# EAGLE library part COMBO-11 (library bao)
COMBO XLR-JACK - 11pins (mathijs) NCJ10FI-H Neutrik Audio Connector XLR SERIES Stereo 1/4" jack with switch Source: www.neutrik.com/
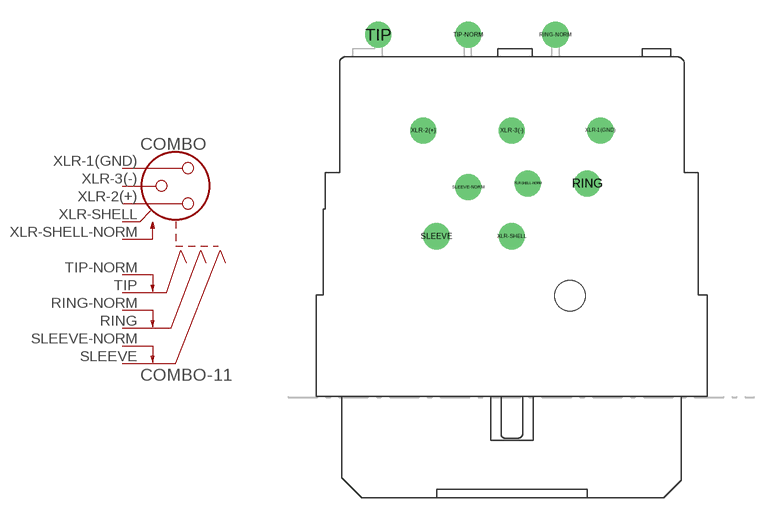
[diagram p20: symbol with the pads of COMBO-11; footprint COMBO-11]

Designator prefix COMBO

## COMBO-11H  [COMBO-11]
RING  RING  pas
RING-NORM  RING-NORM  pas
SLEEVE  SLEEVE  pas
SLEEVE-NORM  SLEEVE-NORM  pas
TIP  TIP  pas
TIP-NORM  TIP-NORM  pas
XLR-1(GND)  XLR-1(GND)  pas
XLR-2(+)  XLR-2(+)  pas
XLR-3(-)  XLR-3(-)  pas
XLR-SHELL  XLR-SHELL  pas
XLR-SHELL-NORM  XLR-SHELL-NORM  pas

## Footprint COMBO-11 (pad centres in mm)
COMBO XLR-JACK - 11pins (mathijs) NCJ10FI-H Neutrik Audio Connector XLR SERIES Stereo 1/4" jack with switch Source: www.neutrik.com/ Neutrik Audio Connector combo, 3-pole, female, XLR/switching ground stereo 1/4" jack Source: www.neutrik.com/...210_263081.pdf
drill 1.2: RING 5.2,14.75; RING-NORM 3,25; SLEEVE -5.2,11.1; SLEEVE-NORM -3,14.5; TIP -9.2,25; TIP-NORM -3,25; XLR-1(GND) 6.1,18.4; XLR-2(+) -6.1,18.4; XLR-3(-) 0,18.4; XLR-SHELL 0,11.1; XLR-SHELL-NORM 1.1,14.75
hole 2.1 at 4,7